# Altium schematic symbol library Sensor_ZTP115_1.Schlib: 1 symbol
Pins are listed as number, name and electrical type; pins without a type are passive.

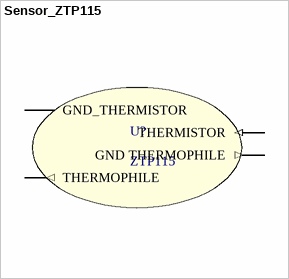
[diagram p0: symbol Sensor_ZTP115]

## Sensor_ZTP115
designator U?, comment ZTP115
footprint TO-5-ZTP
pins: 1 GND_THERMISTOR (power), 2 THERMOPHILE (out), 3 GND THERMOPHILE (out), 4 THERMISTOR (in)